# Altium schematic symbol library AK500_2DS-5.0-V-GREY.SchLib: 1 symbol
Pins are listed as number, name and electrical type; pins without a type are passive.

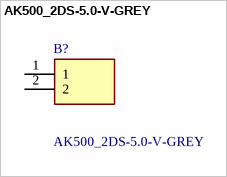
[diagram p0: symbol AK500_2DS-5.0-V-GREY]

## AK500_2DS-5.0-V-GREY
designator B?
Wire Guard | Spacing 5.0 mm / 5.08 mm; Manufacturer_Name: ALTIUM; Manufacturer_Part_Number: AK500/2DS-5.0-V-GREY; Geometry.Height: 10mm; Mouser Part Number: *; Mouser Price/Stock: *; Arrow Part Number: *; Arrow Price/Stock: *; Datasheet Link: http://www.ptr-hartmann.ru/catalog_files/2PTR%20PICTURE_pdf%20Terminal%20Blocks/pdf_AK500-xxDS-5.0-V-xxxx.pdf
footprint AK5002DS50VGREY
pins: 1, 2